# EAGLE library part ATTINY1634 (library Attiny1634)
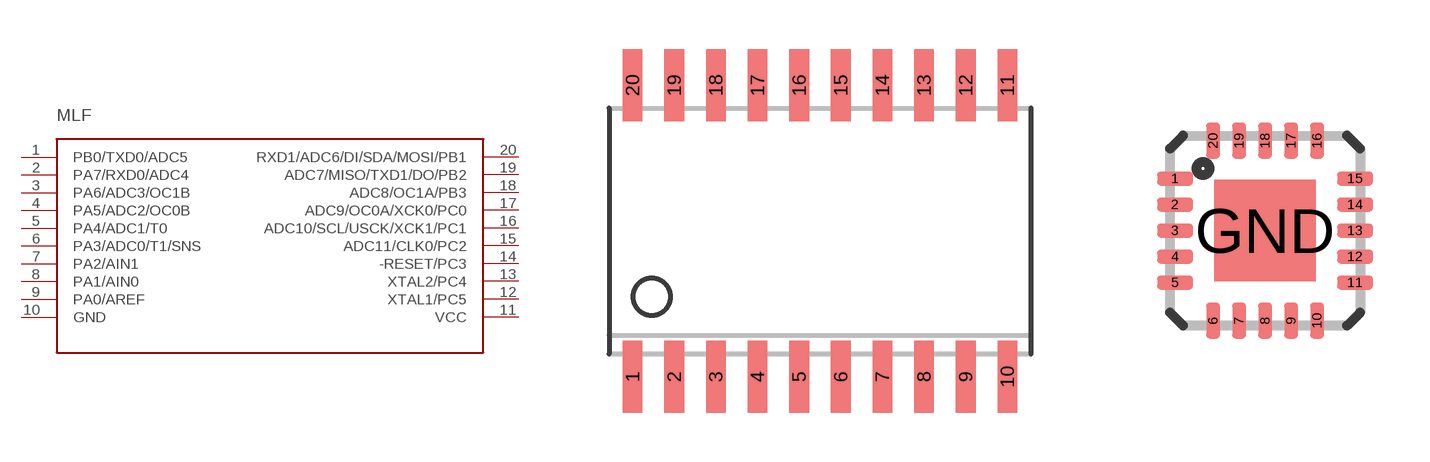
[diagram p0: symbol with the pads of SOIC20; footprints SOIC20, MLF20]

Designator prefix MLF

## ATTINY1634SOIC20  [SOIC20]
1  PB0/TXD0/ADC5
2  PA7/RXD0/ADC4
3  PA6/ADC3/OC1B
4  PA5/ADC2/OC0B
5  PA4/ADC1/T0
6  PA3/ADC0/T1/SNS
7  PA2/AIN1
8  PA1/AIN0
9  PA0/AREF
10  GND  pwr
11  VCC  pwr
12  XTAL1/PC5
13  XTAL2/PC4
14  -RESET/PC3
15  ADC11/CLK0/PC2
16  ADC10/SCL/USCK/XCK1/PC1
17  ADC9/OC0A/XCK0/PC0
18  ADC8/OC1A/PB3
19  ADC7/MISO/TXD1/DO/PB2
20  RXD1/ADC6/DI/SDA/MOSI/PB1

## ATTINY1634MLF20  [MLF20]
1  PA6/ADC3/OC1B
2  PA5/ADC2/OC0B
3  PA4/ADC1/T0
4  PA3/ADC0/T1/SNS
5  PA2/AIN1
6  PA1/AIN0
7  PA0/AREF
8  GND  pwr
9  VCC  pwr
10  XTAL1/PC5
11  XTAL2/PC4
12  -RESET/PC3
13  ADC11/CLK0/PC2
14  ADC10/SCL/USCK/XCK1/PC1
15  ADC9/OC0A/XCK0/PC0
16  ADC8/OC1A/PB3
17  ADC7/MISO/TXD1/DO/PB2
18  RXD1/ADC6/DI/SDA/MOSI/PB1
19  PB0/TXD0/ADC5
20  PA7/RXD0/ADC4
GND  GND  pwr

## Footprint SOIC20 (pad centres in mm)
smd 0.6 x 2.2: 1 -1.905,-4.445; 2 -0.635,-4.445; 3 0.635,-4.445; 4 1.905,-4.445; 5 3.175,-4.445; 6 4.445,-4.445; 7 5.715,-4.445; 8 6.985,-4.445; 9 8.255,-4.445; 10 9.525,-4.445; 11 9.525,4.445; 12 8.255,4.445; 13 6.985,4.445; 14 5.715,4.445; 15 4.445,4.445; 16 3.175,4.445; 17 1.905,4.445; 18 0.635,4.445; 19 -0.635,4.445; 20 -1.905,4.445

## Footprint MLF20 (pad centres in mm)
HP-VFQFP-N20 Micro Lead Frame package (MLF)
smd 0.9 x 0.35: 1 -2.25,1.3; 2 -2.25,0.65; 3 -2.25,0; 4 -2.25,-0.65; 5 -2.25,-1.3; 11 2.25,-1.3; 12 2.25,-0.65; 13 2.25,0; 14 2.25,0.65; 15 2.25,1.3
smd 0.35 x 0.9: 6 -1.3,-2.25; 7 -0.65,-2.25; 8 0,-2.25; 9 0.65,-2.25; 10 1.3,-2.25; 16 1.3,2.25; 17 0.65,2.25; 18 0,2.25; 19 -0.65,2.25; 20 -1.3,2.25
smd 2.54 x 2.54: GND 0,0